# Altium footprint library ComponentsPCB.PcbLib: 28 footprints (part 1 of 2)
Each footprint in its own frame and in the unit in brackets; x right, y up, seen from the top. Pads: shape width x height; smd on the part's side, far side on the other; paste and mask are expansions set on the pad; w line width, h text height; cw(c..) or ccw(c..) is an arc to the next point about the centre after c.
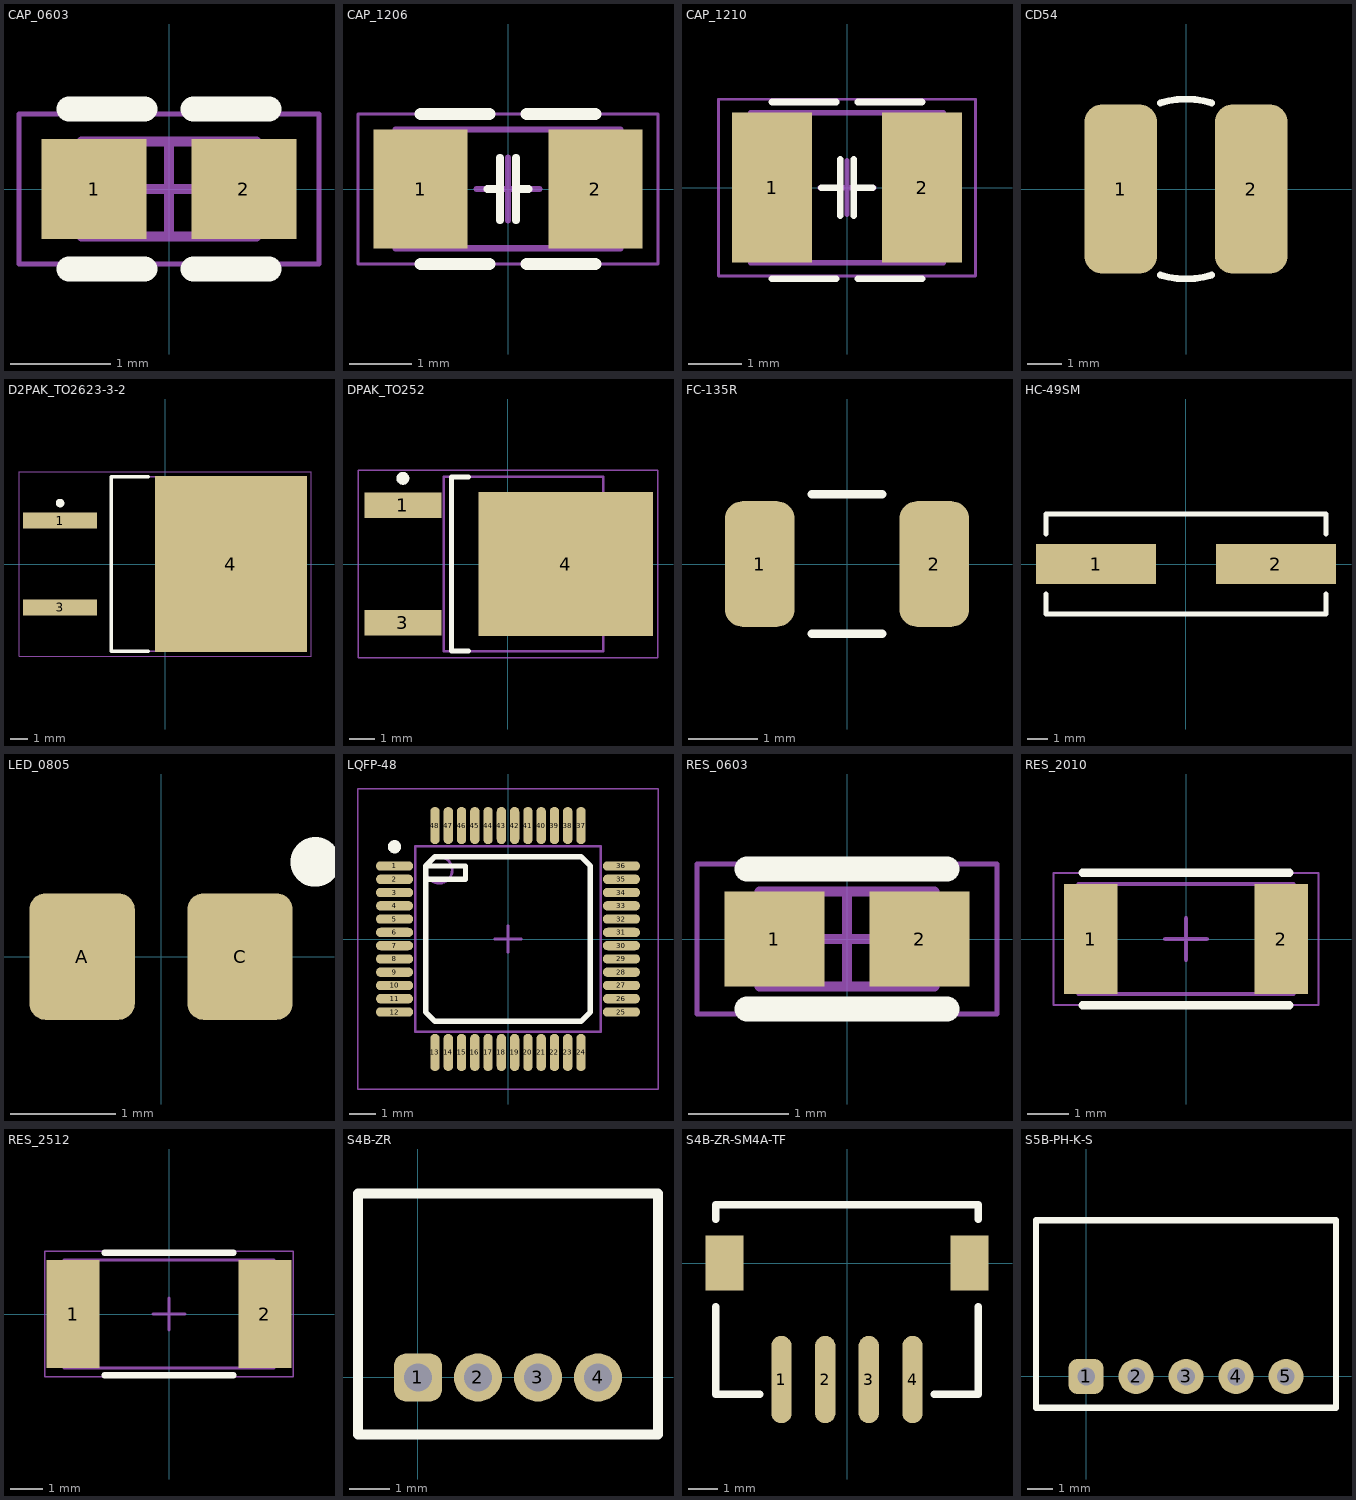
[diagram p0: the footprints below, top view; thin cyan lines are the x and y axes]

## CAP_0603 [mm] "Chip Capacitor, 2-Leads, Body 1,60x0,80mm, IPC Medium Density"
height 0.9
pads (2):
  rect 1.05x1 smd: 1(-0.75,0) 2(0.75,0)
Top Overlay:
  lines w0.254: -1,-0.8 -0.241,-0.8 ; -1,0.8 -0.241,0.8 ; 0.241,-0.8 1,-0.8 ; 0.241,0.8 1,0.8
Mechanical 13:
  lines w0.1: -0.875,-0.475 -0.875,0.475 0.875,0.475 0.875,-0.475 -0.875,-0.475
Mechanical 15:
  lines w0.05: -1.5,-0.75 -1.5,0.75 1.5,0.75 1.5,-0.75 -1.5,-0.75
  lines w0.1: -0.475,0 0.475,0 ; 0,-0.475 0,0.475
3D body: height 0.9, standoff 0, extent -0.875,-0.475 -0.575,0.475
3D body: height 0.9, standoff 0, extent 0.575,-0.475 0.875,0.475
3D body: height 0.9, standoff 0, extent -0.575,-0.475 0.575,0.475

## CAP_1206 [mm]
height 1.9
pads (2):
  rect 1.5x1.9 smd: 1(-1.4,0) 2(1.4,0)
Top Overlay:
  lines w0.127: -0.325,0 -0.125,0 ; -0.125,-0.5 -0.125,0.5 ; 0.125,-0.5 0.125,0.5 ; 0.125,0 0.325,0
  lines w0.2: -1.4,-1.2 -0.3,-1.2 ; -1.4,1.2 -0.3,1.2 ; 0.3,-1.2 1.4,-1.2 ; 0.3,1.2 1.4,1.2
Mechanical 13:
  lines w0.1: -1.8,-0.95 1.8,-0.95 1.8,0.95 -1.8,0.95 -1.8,-0.95
Mechanical 15:
  lines w0.05: -2.4,-1.2 2.4,-1.2 2.4,1.2 -2.4,1.2 -2.4,-1.2
  lines w0.1: -0.5,0 0.5,0 ; 0,-0.5 0,0.5
3D body: height 1.9, standoff 0, extent 1.05,-0.95 1.8,0.95
3D body: height 1.9, standoff 0, extent -1.8,-0.95 -1.05,0.95
3D body: height 1.9, standoff 0, extent -1.05,-0.95 1.05,0.95

## CAP_1210 [mm]
height 1.9
pads (2):
  rect 1.5x2.8 smd: 1(-1.4,0) 2(1.4,0)
Top Overlay:
  lines w0.127: -1.4,-1.7 -0.2,-1.7 ; -1.4,1.6 -0.2,1.6 ; -0.475,0 -0.125,0 ; -0.125,-0.525 -0.125,0.525 ; 0.125,-0.525 0.125,0.525 ; 0.125,0 0.475,0 ; 0.2,-1.7 1.4,-1.7 ; 0.2,1.6 1.4,1.6
Mechanical 13:
  lines w0.1: -1.8,-1.4 1.8,-1.4 1.8,1.4 -1.8,1.4 -1.8,-1.4
Mechanical 15:
  lines w0.05: -2.4,-1.65 2.4,-1.65 2.4,1.65 -2.4,1.65 -2.4,-1.65
  lines w0.1: -0.5,0 0.5,0 ; 0,-0.5 0,0.5
3D body: height 1.9, standoff 0, extent 1.05,-1.4 1.8,1.4
3D body: height 1.9, standoff 0, extent -1.8,-1.4 -1.05,1.4
3D body: height 1.9, standoff 0, extent -1.05,-1.4 1.05,1.4

## CD54 [mm]
pads (2):
  rrect50% 2.15x5 smd: 1(-1.925,0) 2(1.925,0)
Top Overlay:
  lines w0.2: -0.761,-2.538 ccw(c0,0) 0.761,-2.538 ; -0.761,2.538 cw(c0,0) 0.761,2.538
3D body "SMD_Inductor_CD54.step": height 4.49, standoff -0.01, extent -2.9,-2.6 2.9,2.6

## D2PAK_TO2623-3-2 [mm]
height 4.4
pads (3):
  rect 4.35x0.95 smd: 1(-6.15,2.54) 3(-6.15,-2.54)
  rect 8.9x10.3 smd: 4(3.85,0)
Top Overlay:
  circle w0.25: c-6.15,3.565 r0.125
  lines w0.2: -1,-5.1 -3.15,-5.1 -3.15,5.1 -1,5.1
Mechanical 13:
  lines w0.1: -3.15,-5.1 6.3,-5.1 6.3,5.1 -3.15,5.1 -3.15,-5.1
Mechanical 15:
  lines w0.05: -8.55,-5.4 8.55,-5.4 8.55,5.4 -8.55,5.4 -8.55,-5.4
  lines w0.1: -0.5,0 0.5,0 ; 0,-0.5 0,0.5
3D body "TO263-3-2.stp": height 4.22, standoff 0, extent -7.276,-4.897 7.326,4.925

## DPAK_TO252 [mm] "D-PAK, 3-Pads, Body 6,21x6,76mm (max), IPC Medium Density"
height 2.4
pads (3):
  rect 3x1 smd: 1(-4.1,2.29) 3(-4.1,-2.29)
  rect 6.8x5.6 smd: 4(2.25,0)
Top Overlay:
  circle w0.25: c-4.1,3.34 r0.125
  lines w0.2: -1.55,-3.4 -2.2,-3.4 -2.2,3.4 -1.55,3.4
Mechanical 13:
  lines w0.1: -2.5,-3.4 -2.5,3.4 3.72,3.4 3.72,-3.4 -2.5,-3.4
Mechanical 15:
  lines w0.05: -5.85,-3.65 -5.85,3.65 5.85,3.65 5.85,-3.65 -5.85,-3.65
  lines w0.1: -0.5,0 0.5,0 ; 0,-0.5 0,0.5
3D body "TO-252.step": height 2.55, standoff -0.17, extent -5.125,-3.365 5.295,3.365

## FC-135R [mm]
pads (2):
  rrect50% 1x1.8 smd: 1(-1.25,0) 2(1.25,0)
Top Overlay:
  lines w0.127: -0.5,-1 0.5,-1 ; -0.5,1 0.5,1
3D body "FC-135.STEP": height 0.8, standoff 0, extent -1.6,-0.75 1.6,0.75

## HC-49SM [mm] "Кварцевый резонатор поверхностного монтажа"
height 4.5
pads (2):
  rect 6x2 smd: 1(-4.5,0) 2(4.5,0)
Top Overlay:
  lines w0.254: -7,-1.5 -7,-2.5 7,-2.5 7,-1.5 ; -7,1.5 -7,2.5 7,2.5 7,1.5
3D body "HC-49SM.stp": height 4, standoff 0, extent -6.7,-2.4 6.7,2.4

## LED_0805 [mm]
pads (2):
  rrect30% 1x1.2 smd: A(-0.75,0) C(0.75,0)
Top Overlay:
  circle w0.4: c1.465,0.9 r0.035
3D body "LED-0805.step": height 1.1, standoff 0, extent -1.01,-0.625 1.01,0.625

## LQFP-48 [mm]
height 1.6
pads (48):
  oval 1.4x0.35 smd: 1(-4.275,2.75) 2(-4.275,2.25) 3(-4.275,1.75) 4(-4.275,1.25) 5(-4.275,0.75) 6(-4.275,0.25) 7(-4.275,-0.25) 8(-4.275,-0.75) 9(-4.275,-1.25) 10(-4.275,-1.75) 11(-4.275,-2.25) 12(-4.275,-2.75) 25(4.275,-2.75) 26(4.275,-2.25) 27(4.275,-1.75) 28(4.275,-1.25) 29(4.275,-0.75) 30(4.275,-0.25) 31(4.275,0.25) 32(4.275,0.75) 33(4.275,1.25) 34(4.275,1.75) 35(4.275,2.25) 36(4.275,2.75)
  oval 0.35x1.4 smd: 13(-2.75,-4.275) 14(-2.25,-4.275) 15(-1.75,-4.275) 16(-1.25,-4.275) 17(-0.75,-4.275) 18(-0.25,-4.275) 19(0.25,-4.275) 20(0.75,-4.275) 21(1.25,-4.275) 22(1.75,-4.275) 23(2.25,-4.275) 24(2.75,-4.275) 37(2.75,4.275) 38(2.25,4.275) 39(1.75,4.275) 40(1.25,4.275) 41(0.75,4.275) 42(0.25,4.275) 43(-0.25,4.275) 44(-0.75,4.275) 45(-1.25,4.275) 46(-1.75,4.275) 47(-2.25,4.275) 48(-2.75,4.275)
Top Overlay:
  circle w0.25: c-4.275,3.475 r0.125
  lines w0.2: -3.1,2.25 -1.6,2.25 -1.6,2.75 -3.1,2.75 ; -3.1,2.75 -2.75,3.1 2.75,3.1 3.1,2.75 3.1,-2.75 2.75,-3.1 -2.75,-3.1 -3.1,-2.75 -3.1,2.75
Mechanical 13:
  circle w0.1: c-2.6,2.6 r0.5
  lines w0.1: -3.5,-3.5 3.5,-3.5 3.5,3.5 -3.5,3.5 -3.5,-3.5
Mechanical 15:
  lines w0.05: -5.65,-5.65 5.65,-5.65 5.65,5.65 -5.65,5.65 -5.65,-5.65
  lines w0.1: -0.5,0 0.5,0 ; 0,-0.5 0,0.5
3D body "LQFP48 STM.STEP": height 1.6, standoff 0, extent -4.5,-4.5 4.5,4.5

## RES_0603 [mm] "Chip Resistor, 2-Leads, Body 1,60x0,80mm, IPC Medium Density"
height 0.6
pads (2):
  rect 1x0.95 smd: 1(-0.725,0) 2(0.725,0)
Top Overlay:
  lines w0.254: -1,-0.7 1,-0.7 ; -1,0.7 1,0.7
Mechanical 13:
  lines w0.1: -0.875,-0.475 -0.875,0.475 0.875,0.475 0.875,-0.475 -0.875,-0.475
Mechanical 15:
  lines w0.05: -1.5,-0.75 -1.5,0.75 1.5,0.75 1.5,-0.75 -1.5,-0.75
  lines w0.1: -0.475,0 0.475,0 ; 0,-0.475 0,0.475
3D body: height 0.6, standoff 0, extent -0.575,-0.475 0.575,0.475
3D body: height 0.6, standoff 0, extent -0.875,-0.475 -0.575,0.475
3D body: height 0.6, standoff 0, extent 0.575,-0.475 0.875,0.475

## RES_2010 [mm]
height 0.65
pads (2):
  rect 1.3x2.65 smd: 1(-2.3,0) 2(2.3,0)
Top Overlay:
  lines w0.2: -2.5,-1.6 2.5,-1.6 ; -2.5,1.6 2.5,1.6
Mechanical 13:
  lines w0.1: -2.6,-1.325 2.6,-1.325 2.6,1.325 -2.6,1.325 -2.6,-1.325
Mechanical 15:
  lines w0.05: -3.2,-1.6 3.2,-1.6 3.2,1.6 -3.2,1.6 -3.2,-1.6
  lines w0.1: -0.5,0 0.5,0 ; 0,-0.5 0,0.5
3D body: height 0.65, standoff 0, extent 2.1,-1.325 2.6,1.325
3D body: height 0.65, standoff 0, extent -2.6,-1.325 -2.1,1.325
3D body: height 0.65, standoff 0, extent -2.1,-1.325 2.1,1.325

## RES_2512 [mm]
height 0.65
pads (2):
  rect 1.65x3.35 smd: 1(-2.975,0) 2(2.975,0)
Top Overlay:
  lines w0.2: -2,-1.9 2,-1.9 ; -2,1.9 2,1.9
Mechanical 13:
  lines w0.1: -3.25,-1.675 3.25,-1.675 3.25,1.675 -3.25,1.675 -3.25,-1.675
Mechanical 15:
  lines w0.05: -3.85,-1.95 3.85,-1.95 3.85,1.95 -3.85,1.95 -3.85,-1.95
  lines w0.1: -0.5,0 0.5,0 ; 0,-0.5 0,0.5
3D body: height 0.65, standoff 0, extent 2.75,-1.675 3.25,1.675
3D body: height 0.65, standoff 0, extent -3.25,-1.675 -2.75,1.675
3D body: height 0.65, standoff 0, extent -2.75,-1.675 2.75,1.675

## S4B-ZR [mm]
pads (4):
  rrect50% 1.2x1.2 hole 0.7: 1(0,0)
  round 1.2 hole 0.7: 2(1.5,0) 3(3,0) 4(4.5,0)
Top Overlay:
  lines w0.254: -1.5,-1.425 6,-1.425 6,4.6 -1.5,4.6 -1.5,-1.425
3D body "S4B-ZR.STEP": height 3.7, standoff -2.7, extent -1.475,-1.425 6.025,4.575

## S4B-ZR-SM4A-TF [mm]
pads (6):
  oval 0.7x3 smd: 1(-2.25,-4) 2(-0.75,-4) 3(0.75,-4) 4(2.25,-4)
  rect 1.3x1.9 smd: ""(-4.2,0) ""(4.2,0)
Top Overlay:
  lines w0.254: -4.5,-1.5 -4.5,-4.5 -3,-4.5 ; -4.5,1.5 -4.5,2 4.5,2 4.5,1.5 ; 3,-4.5 4.5,-4.5 4.5,-1.5
3D body "S4B-ZR-SM4A-TF.STEP": height 3.7, standoff 0, extent -4.5,-4.5 4.5,2

## S5B-PH-K-S [mm]
pads (5):
  rrect50% 1.4x1.4 hole 0.7: 1(0,0)
  round 1.4 hole 0.7: 2(2,0) 3(4,0) 4(6,0) 5(8,0)
Top Overlay:
  lines w0.254: -2,-1.25 10,-1.25 10,6.25 -2,6.25 -2,-1.25
3D body "JST-S5B-PH-K-S.STEP": height 4.8, standoff -3.4, extent -1.95,-1.35 9.95,6.25